# Altium footprint library TPS54531.PcbLib: 1 footprints
Each footprint in its own frame and in the unit in brackets; x right, y up, seen from the top. Pads: shape width x height; smd on the part's side, far side on the other; paste and mask are expansions set on the pad; w line width, h text height; cw(c..) or ccw(c..) is an arc to the next point about the centre after c.
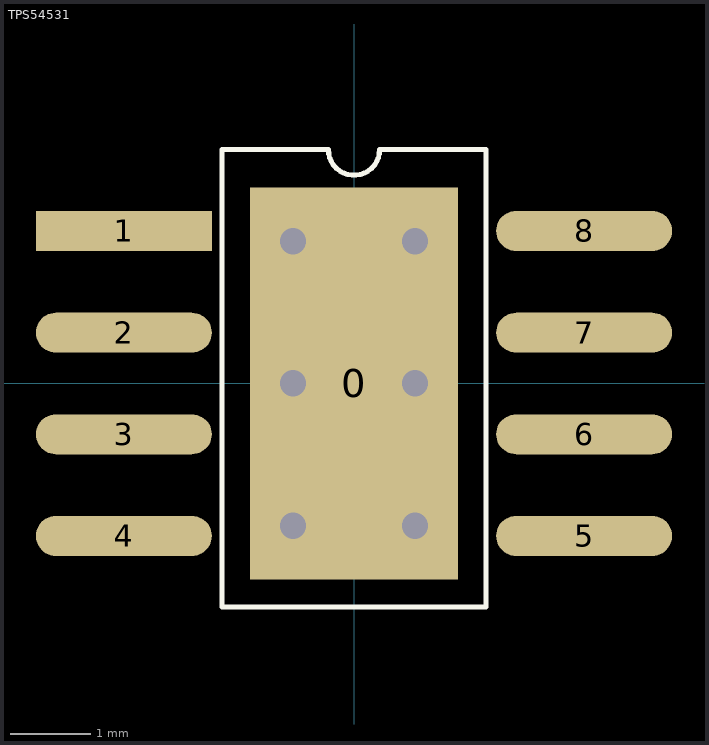
[diagram p0: the footprint, top view; thin cyan lines are the x and y axes]

## TPS54531 [mm]
pads (9):
  rect 2.6x4.9 smd: 0(0,0)
  rect 2.2x0.5 smd: 1(-2.875,1.905)
  oval 2.2x0.5 smd: 2(-2.875,0.635) 3(-2.875,-0.635) 4(-2.875,-1.905) 5(2.875,-1.905) 6(2.875,-0.635) 7(2.875,0.635) 8(2.875,1.905)
via 0.762,0 diameter 0.381 hole 0.33
via 0.762,1.778 diameter 0.381 hole 0.33
via -0.762,1.778 diameter 0.381 hole 0.33
via -0.762,0 diameter 0.381 hole 0.33
via -0.762,-1.778 diameter 0.381 hole 0.33
via 0.762,-1.778 diameter 0.381 hole 0.33
Top Overlay:
  lines w0.064: -0.33,2.921 -1.651,2.921 -1.651,-2.794 1.651,-2.794 1.651,2.921 0.318,2.921 ; -0.32,2.921 ccw(c0,2.921) 0.32,2.921